# EAGLE library part R_ARRAY_5 (library resistor_array)
Resistor Array 5
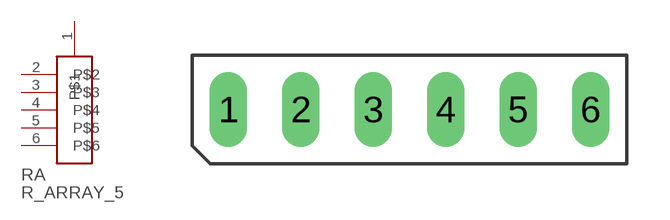
[diagram p0: symbol with the pads of RA5; footprint RA5]

Designator prefix RA

## R_ARRAY_5  [RA5]
1  P$1
2  P$2
3  P$3
4  P$4
5  P$5
6  P$6

## Footprint RA5 (pad centres in mm)
Resistor Array 5
drill 0.813 long: 1 -11.43,-3.81; 2 -8.89,-3.81; 3 -6.35,-3.81; 4 -3.81,-3.81; 5 -1.27,-3.81; 6 1.27,-3.81